# Altium integrated library resistencias_smd.IntLib: 19 symbols
Pins are listed as number, name and electrical type; pins without a type are passive.

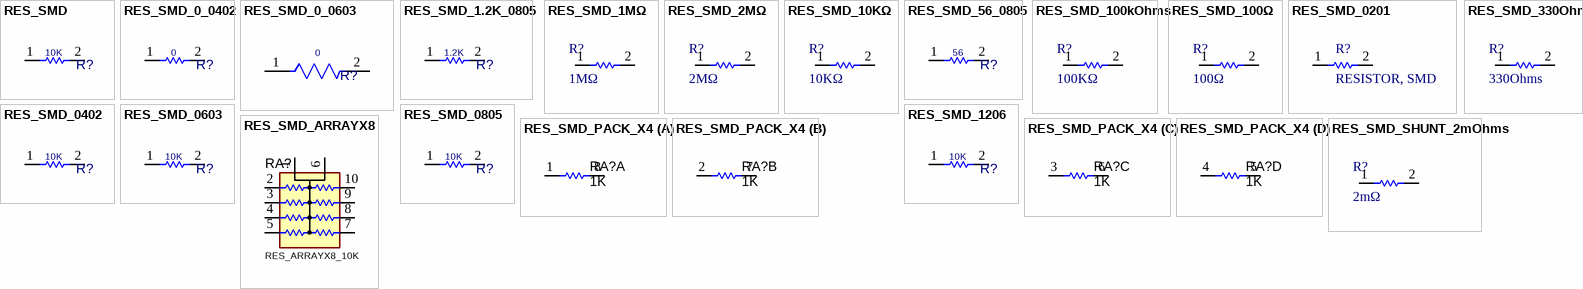
[diagram p0: symbols RES_SMD to RES_SMD_SHUNT_2mOhms]

## RES_SMD
designator R?, comment 10K
RESISTOR, SMD; PARAM: 0.063W; DESC: DESCRIPTION; DIST#: MOUSER; PARAM2: 1%; MANF_P#: -; MANF: -; ASSEMBLY: ASSEMBLY; PRICE: 100= 0.5$; VALUE: 10K
footprint R0402 (CHIP Resistor 1/16 WATT, 1.0X0.5mm, 0402, 1005)
footprint R0603 (CHIP Resistor 1/10 WATT, 1.6x0.8mm, 0603, 1608)
footprint R0805 (CHIP RESISTOR 1/8 WATT ,2.0X1.3mm, 0805, 2012)
footprint R1206 (CHIP RESISTOR 1/4 WATT, Body 3.2x1.6mm,1206, 3216)
footprint R2512 (CHIP RESISTOR 1 WATT, 6.4X3.2mm, 2512, 6432)
footprint R2010 (CHIP RESISTOR 3/4 WATT, 5.1x3mm, 2010, 5025)
footprint R1210 (CHIP RESISTOR 1/2 WATT, Body 3.2x2.5mm,1210, 3225)
pins: 1, 2

## RES_SMD_0_0402
designator R?, comment 0
Res Thick Film 0402 0 Ohm Molded SMD Punched Paper T/R; Manufacturer: KOA Speer; Manufacturer Part Number: RK73Z1ETTP; Resistance: 0mR; Power Rating: 1W; Tolerance: 5%; Temperature Coefficient: 200ppm/°C; Supplier 1: Mouser; RoHS: Yes; Category: Chip SMD Resistors; Stock 1: 2478828; Pricing 1: 1=0.10000, 10=0.01600, 100=0.00700, 1000=0.00300, 2500=0.00300, 10000=0.00200 (USD); Case/Package: 0402; Case Code (Imperial): 0402; Case Code (Metric): 1005; Min Operating Temperature: -55°C; Max Operating Temperature: 155°C; Composition: Thick Film; Packaging: Tape and Reel; Package Quantity: 10000; Termination: SMD/SMT; Military Standard: Not; Length: 1mm; Height: 0.35mm; Width: 0.5mm; Depth: 0.5mm; Lead Free: Lead Free; ComponentLink1URL: https://datasheet.ciiva.com/26821/getdatasheetpartid-65767-26821052.pdf?src-supplier=Verical; ComponentLink1Description: https://datasheet.ciiva.com/26821/getdatasheetpartid-65767-26821052.pdf?src-supplier=Verical; Supplier Part Number 1: 660-RK73Z1ETTP; VALUE: 0
footprint R0402 (CHIP Resistor 1/16 WATT, 1.0X0.5mm, 0402, 1005)
pins: 1, 2

## RES_SMD_0_0603
designator R?, comment 0
YAGEO - RC0603JR-070RL - Chipwiderstand, Oberflächenmontage, Jumper, 0603 [Metrisch 1608], 0 ohm, Baureihe RC, 75 V, Dickschicht; Resistance: 0mR; Tolerance: 1%; Power Rating: 100mW; Voltage Rating (DC): 50V; Temperature Coefficient: 200ppm/°C; Supplier 1: Mouser; Manufacturer: Yageo; Manufacturer Part Number: RC0603JR-070RL; RoHS: Yes; Category: Chip SMD Resistors; Stock 1: 4206149; Pricing 1: 1=0.10000, 10=0.01500, 100=0.00500, 1000=0.00400, 5000=0.00300, 10000=0.00300 (USD); Case/Package: 0603; Number of Pins: 2; Contact Plating: Tin,Matte; Case Code (Imperial): 0603; Case Code (Metric): 1608; Min Operating Temperature: -55°C; Max Operating Temperature: 155°C; Composition: Thick Film; Packaging: Tape and Reel; Termination: SMD/SMT; Package Quantity: 5000; Voltage Rating: 50V; Military Standard: Not; Length: 1.6mm; Height: 0.45mm; Width: 0.8mm; Depth: 0.8mm; Radiation Hardening: No; REACH SVHC: No SVHC; Lead Free: Lead Free; ComponentLink1URL: https://datasheet.ciiva.com/11808/pyu-r-int-6-11808700.pdf?src-supplier=RSComponents; ComponentLink1Description: https://datasheet.ciiva.com/11808/pyu-r-int-6-11808700.pdf?src-supplier=RSComponents; ComponentLink2URL: https://datasheet.ciiva.com/7746/1738695-7746421.pdf?src-supplier=Element14; ComponentLink2Description: https://datasheet.ciiva.com/7746/1738695-7746421.pdf?src-supplier=Element14; ComponentLink3URL: https://datasheet.ciiva.com/8883/pyu-rc0603-51-rohs-l-4-8883045.pdf?src-supplier=Avnet; ComponentLink3Description: https://datasheet.ciiva.com/8883/pyu-rc0603-51-rohs-l-4-8883045.pdf?src-supplier=Avnet; ComponentLink4URL: https://datasheet.ciiva.com/15189/getdatasheetpartid-329462-15189845.pdf?src-supplier=Verical; ComponentLink4Description: https://datasheet.ciiva.com/15189/getdatasheetpartid-329462-15189845.pdf?src-supplier=Verical; ComponentLink5URL: https://datasheet.ciiva.com/7746/1738695-7746422.pdf?src-supplier=Element14; ComponentLink5Description: https://datasheet.ciiva.com/7746/1738695-7746422.pdf?src-supplier=Element14; ComponentLink6URL: https://datasheet.ciiva.com/12555/rc0603-272842-12555254.pdf?src-supplier=Mouser; ComponentLink6Description: https://datasheet.ciiva.com/12555/rc0603-272842-12555254.pdf?src-supplier=Mouser; ComponentLink7URL: https://datasheet.ciiva.com/22747/443971-22747530.pdf?src-supplier=Element14; ComponentLink7Description: https://datasheet.ciiva.com/22747/443971-22747530.pdf?src-supplier=Element14; Supplier Part Number 1: 603-RC0603JR-070RL; VALUE: 0
footprint R0603 (CHIP Resistor 1/10 WATT, 1.6x0.8mm, 0603, 1608)
pins: 1, 2

## RES_SMD_1.2K_0805
designator R?, comment 1.2K
RES SMD 1.2K OHM 5% 0.4W 0805; Manufacturer: Rohm; Manufacturer Part Number: ESR10EZPJ122; Resistance: 1.2kR; Power Rating: 250mW; Max Power Dissipation: 400mW; Temperature Coefficient: 200ppm/°C; Supplier 1: Digi-Key; RoHS: Yes; Category: Chip SMD Resistors; Stock 1: 11376; Pricing 1: 1=0.10000, 10=0.07600, 100=0.02920, 1000=0.01283, 2500=0.01108 (USD); Case/Package: 0805; Case Code (Imperial): 0805; Case Code (Metric): 2012; Min Operating Temperature: -55°C; Max Operating Temperature: 155°C; Features: Automotive AEC-Q200; Package Quantity: 1; Tolerance: 5%; Packaging: Tape and Reel; Composition: Thick Film; Number of Terminations: 2; Length: 0.079inch; Height: 0.026inch; Width: 0.049inch; Lead Free: Lead Free; ComponentLink1URL: https://datasheet.ciiva.com/2525/esr-2525616.pdf?src-supplier=Digi-Key; ComponentLink1Description: https://datasheet.ciiva.com/2525/esr-2525616.pdf?src-supplier=Digi-Key; ComponentLink2URL: https://datasheet.ciiva.com/16439/esr10ezpd-16439962.pdf?src-supplier=Future+Electronics; ComponentLink2Description: https://datasheet.ciiva.com/16439/esr10ezpd-16439962.pdf?src-supplier=Future+Electronics; ComponentLink3URL: https://datasheet.ciiva.com/2525/esr-2525614.pdf?src-supplier=Digi-Key; ComponentLink3Description: https://datasheet.ciiva.com/2525/esr-2525614.pdf?src-supplier=Digi-Key; ComponentLink4URL: https://datasheet.ciiva.com/2525/esr-2525615.pdf?src-supplier=Digi-Key; ComponentLink4Description: https://datasheet.ciiva.com/2525/esr-2525615.pdf?src-supplier=Digi-Key; Supplier Part Number 1: RHM1.2KKCT-ND; VALUE: 1.2K
footprint R0805 (CHIP RESISTOR 1/8 WATT ,2.0X1.3mm, 0805, 2012)
pins: 1, 2

## RES_SMD_1MΩ
designator R?, comment 1MΩ
Resistores de película gruesa - SMD RT 2A 0.25W 1M0 0.1% 25PPM 5K RL / RT73F2A1M0BTD
footprint 0805 (,0805, 2012, 200X130)
pins: 1, 2

## RES_SMD_2MΩ
designator R?, comment 2MΩ
Resistores de película gruesa - SMD RT 2A 0.25W 2M0 0.1% 25PPM 5K RL / RT73F2A2M0BTD
footprint 0805 (,0805, 2012, 200X130)
pins: 1, 2

## RES_SMD_10KΩ
designator R?, comment 10KΩ
Resistores de película fina - SMD MCU 0805-25 0.1% AT P5 10K / MCU0805MD1002BP500
footprint 0805 (,0805, 2012, 200X130)
pins: 1, 2

## RES_SMD_56_0805
designator R?, comment 56
RES SMD 56 OHM 1% 0.4W 0805; Manufacturer: Rohm; Manufacturer Part Number: ESR10EZPF56R0; Resistance: 56R; Temperature Coefficient: 100ppm/°C; Max Power Dissipation: 400mW; Supplier 1: Mouser; RoHS: Yes; Category: Chip SMD Resistors; Stock 1: 8882; Pricing 1: 1=0.16000, 10=0.13300, 100=0.05200, 1000=0.02200, 5000=0.01900, 10000=0.01500 (USD); Case/Package: 0805; Case Code (Metric): 2012; Case Code (Imperial): 0805; Min Operating Temperature: -55°C; Max Operating Temperature: 155°C; Tolerance: 1%; Packaging: Tape and Reel; Composition: Thick Film; Package Quantity: 1; Features: Automotive AEC-Q200; Number of Terminations: 2; Length: 0.079inch; Height: 0.026inch; Width: 0.049inch; ComponentLink1URL: https://datasheet.ciiva.com/2470/esr-2470172.pdf?src-supplier=Digi-Key; ComponentLink1Description: https://datasheet.ciiva.com/2470/esr-2470172.pdf?src-supplier=Digi-Key; ComponentLink2URL: https://datasheet.ciiva.com/2470/esr-2470173.pdf?src-supplier=Digi-Key; ComponentLink2Description: https://datasheet.ciiva.com/2470/esr-2470173.pdf?src-supplier=Digi-Key; ComponentLink3URL: https://datasheet.ciiva.com/2470/esr-2470171.pdf?src-supplier=Digi-Key; ComponentLink3Description: https://datasheet.ciiva.com/2470/esr-2470171.pdf?src-supplier=Digi-Key; Supplier Part Number 1: 755-ESR10EZPF56R0; VALUE: 56
footprint R0805 (CHIP RESISTOR 1/8 WATT ,2.0X1.3mm, 0805, 2012)
pins: 1, 2

## RES_SMD_100kOhms
designator R?, comment 100KΩ
Resistores de película fina - SMD 0805 0.1% 100Kohm 25ppm SMD
footprint R0805 (CHIP RESISTOR 1/8 WATT ,2.0X1.3mm, 0805, 2012)
pins: 1, 2

## RES_SMD_100Ω
designator R?, comment 100Ω
Resistores de alta frecuencia RF 100ohms 1% 25ppm / FC1206E1000FBTS
footprint R1206 (CHIP RESISTOR 1/4 WATT, Body 3.2x1.6mm,1206, 3216)
pins: 1, 2

## RES_SMD_0201
designator R?, comment RESISTOR, SMD
footprint R0201 (CHIP Resistor, 0.5x0.25mm, 0201)
pins: 1, 2

## RES_SMD_330Ohms
designator R?, comment 330Ohms
Núcleos de ferrita 330 OHM / BLM21PG331SZ1D
footprint 0805 (,0805, 2012, 200X130)
pins: 1, 2

## RES_SMD_0402
designator R?, comment 10K
RESISTOR, SMD; PARAM: 0.063W; DESC: DESCRIPTION; DIST#: MOUSER; PARAM2: 1%; MANF_P#: -; MANF: -; ASSEMBLY: ASSEMBLY; PRICE: 100= 0.5$; VALUE: 10K
footprint R0402 (CHIP Resistor 1/16 WATT, 1.0X0.5mm, 0402, 1005)
pins: 1, 2

## RES_SMD_0603
designator R?, comment 10K
RESISTOR, SMD; PARAM: 0.063W; DESC: DESCRIPTION; DIST#: MOUSER; PARAM2: 1%; MANF_P#: -; MANF: -; ASSEMBLY: ASSEMBLY; PRICE: 100= 0.5$; VALUE: 10K
footprint R0603 (CHIP Resistor 1/10 WATT, 1.6x0.8mm, 0603, 1608)
pins: 1, 2

## RES_SMD_0805
designator R?, comment 10K
RESISTOR, SMD; PARAM: 0.063W; DESC: DESCRIPTION; DIST#: MOUSER; PARAM2: 1%; MANF_P#: -; MANF: -; ASSEMBLY: ASSEMBLY; PRICE: 100= 0.5$; VALUE: 10K
footprint R0805 (CHIP RESISTOR 1/8 WATT ,2.0X1.3mm, 0805, 2012)
pins: 1, 2

## RES_SMD_1206
designator R?, comment 10K
RESISTOR, SMD; PARAM: 0.063W; DESC: DESCRIPTION; DIST#: MOUSER; PARAM2: 1%; MANF_P#: -; MANF: -; ASSEMBLY: ASSEMBLY; PRICE: 100= 0.5$; VALUE: 10K
footprint R1206 (CHIP RESISTOR 1/4 WATT, Body 3.2x1.6mm,1206, 3216)
pins: 1, 2

## RES_SMD_ARRAYX8
designator RA?, comment RES_ARRAYX8_10K
Res Thick Film NET 10K Ohm 5% ±200ppm/C BUS Molded 10-Pin 1608 Concave SMD Punched Carrier T/R; Manufacturer: Panasonic; Manufacturer Part Number: EXB-E10C103J; Number of Resistors: 8; Temperature Coefficient: 200ppm/°C; Resistance: 10kR; Circuit Type: Bussed; Power Per Element: 62.5mW; Number of Contacts: 10; Voltage Rating (DC): 50V; Power Dissipation: 63mW; Voltage Rating: 25V; Supplier 1: Mouser; RoHS: Yes; Category: Resistor Arrays; Stock 1: 16445; Pricing 1: 1=0.48000, 10=0.23000, 100=0.15600, 500=0.13100, 1000=0.10200, 4000=0.09900, 8000=0.08700, 24000=0.08400, 48000=0.08200 (USD); Mount: Surface Mount; Case/Package: 1608; Number of Pins: 10; Number of Terminals: 10; Case Code (Metric): 4021; Case Code (Imperial): 1608; Min Operating Temperature: -55°C; Max Operating Temperature: 125°C; Termination: Concave; Military Standard: Not; Tolerance: 5%; Packaging: Tape and Reel; Package Quantity: 4000; Number of Elements: 8; Length: 4mm; Height: 0.026inch; Terminal Pitch: 0.8mm; Depth: 2.1mm; Width: 0.083inch; Radiation Hardening: No; Lead Free: Lead Free; REACH SVHC: Unknown; ComponentLink1URL: https://datasheet.ciiva.com/27050/923139-27050995.pdf?src-supplier=Jameco; ComponentLink1Description: https://datasheet.ciiva.com/27050/923139-27050995.pdf?src-supplier=Jameco; ComponentLink2URL: https://datasheet.ciiva.com/8319/aoc0000ce3-8319322.pdf?src-supplier=Avnet; ComponentLink2Description: https://datasheet.ciiva.com/8319/aoc0000ce3-8319322.pdf?src-supplier=Avnet; ComponentLink3URL: https://datasheet.ciiva.com/28418/1790634-28418923.pdf?src-supplier=Element14; ComponentLink3Description: https://datasheet.ciiva.com/28418/1790634-28418923.pdf?src-supplier=Element14; ComponentLink4URL: https://datasheet.ciiva.com/8054/1790634-8054652.pdf?src-supplier=Element14; ComponentLink4Description: https://datasheet.ciiva.com/8054/1790634-8054652.pdf?src-supplier=Element14; Supplier Part Number 1: 667-EXB-E10C103J; Value: RES_ARRAYX8_10K
footprint RARRX8_4021 (Resistor ARRAY X8, SMD, 4.0x2.1mm)
pins: 1 COM, 2, 3, 4, 5, 6 COM, 7, 8, 9, 10

## RES_SMD_PACK_X4
designator RA?, comment value 1K  (hidden comment: Film Res Pack)
RESISTOR, SMD, PACKX4; MANF_P#: MANF_PART#; MANF: MANF
footprint RP0603X4 (RPACK, 0603X4, 160X80X4 1206)
footprint RP0402X4 (RPACK, 0804, 0402X4, 100X50X4, 2.00x1.00mm)
part A pins: 1, 8
part B pins: 2, 7
part C pins: 3, 6
part D pins: 4, 5

## RES_SMD_SHUNT_2mOhms
designator R?, comment 2mΩ
Sensor de voltaje y sensor de corriente- Reguladores y monitores de potencia y corriente AEC-Q100 36V 16-bi t ultra-precise i2
footprint 0805 (,0805, 2012, 200X130)
pins: 1, 2